# Altium integrated library ec200u new design.IntLib: 58 symbols
Pins are listed as number, name and electrical type; pins without a type are passive.

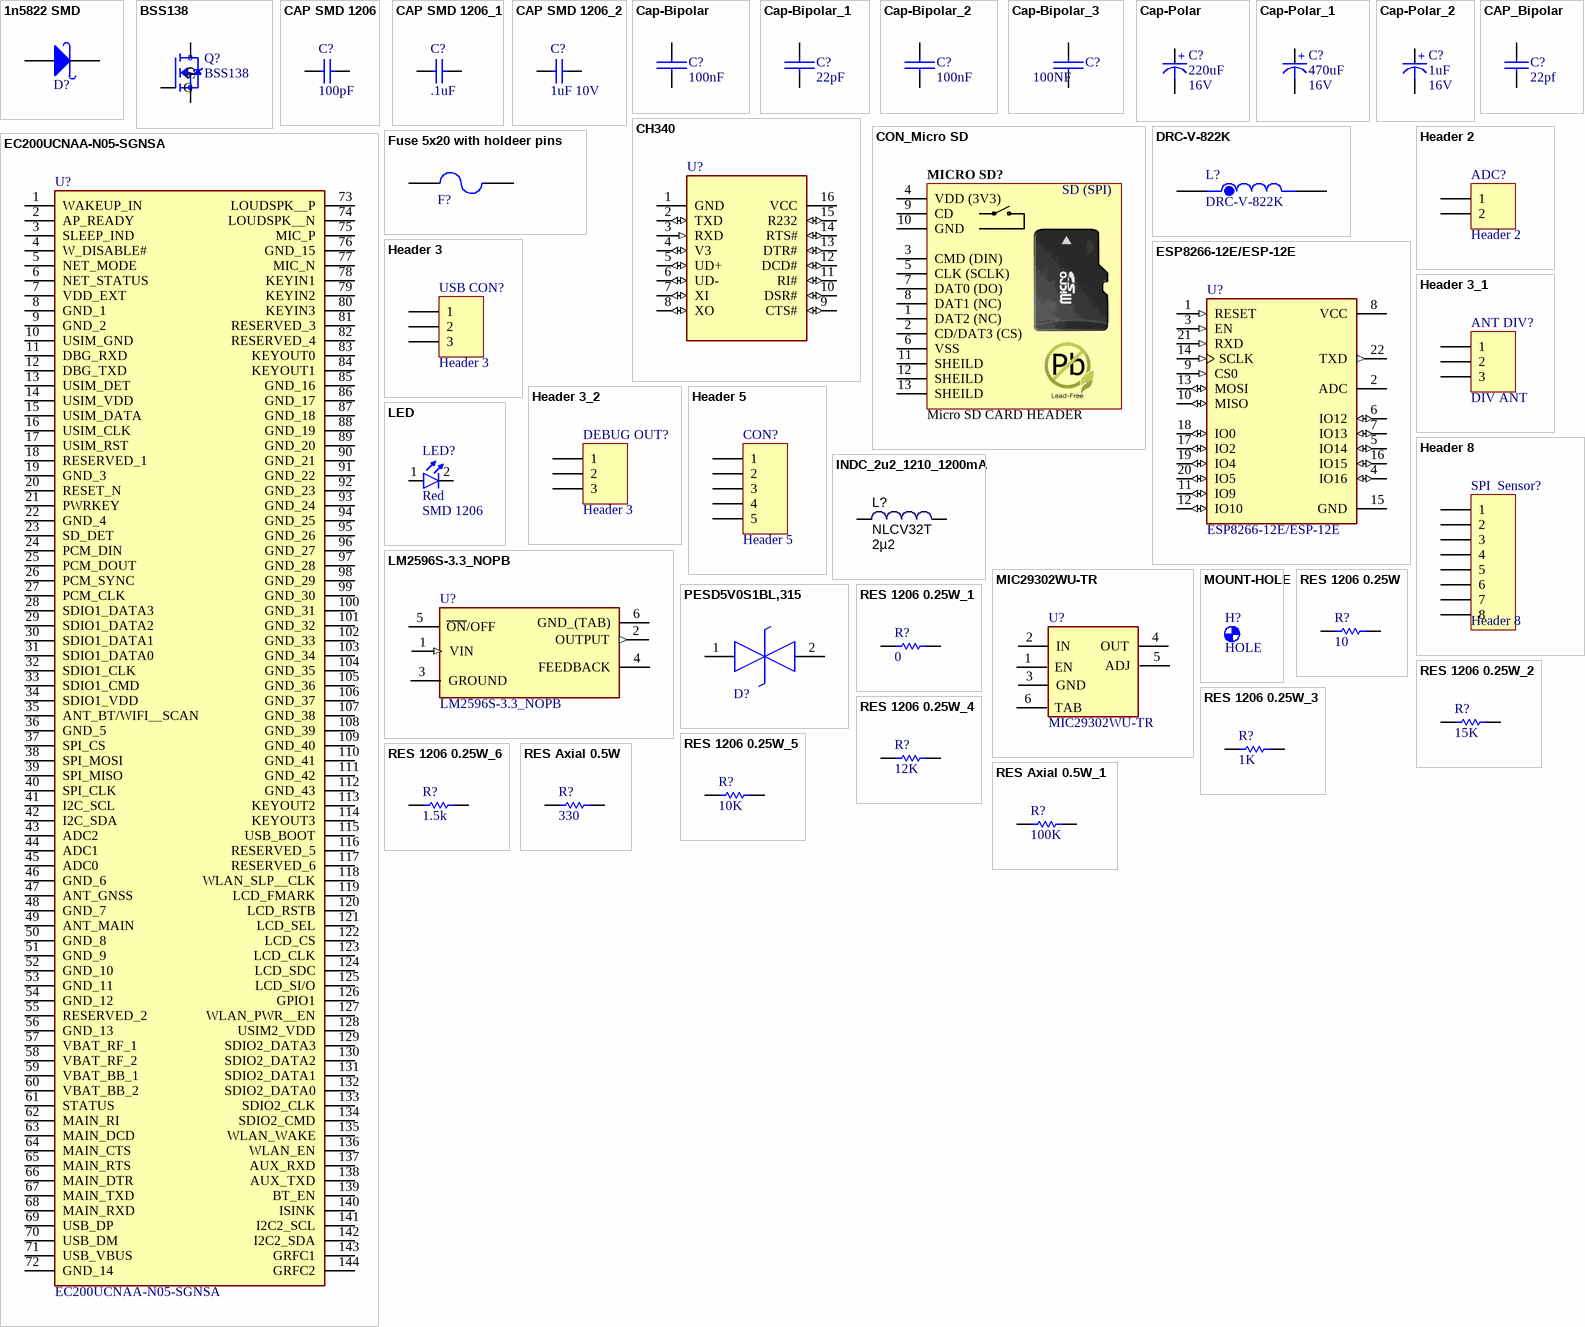
[diagram p0: symbols 1n5822 SMD to RES Axial 0.5W_1]

## 1n5822 SMD
designator D?, comment 1n5822  (value not drawn)
Schottky Rectifiers; Part. No: SS34; Manufacturer: ON Semiconductor/Fairchild; Designer: Abbas Basereh; Link: https://www.aliexpress.com/item/Free-shipping-100pcs-1n5822-sma-smd-do-214ac-Schottky-diode-ss34/32337482329.html?spm=2114.01010208.3.1.zLZDsP&ws_ab_test=searchweb0_0,searchweb201602_4_10065_10068_10084_10083_10080_10082_10081_10060_10061_10062_10056_10055_10054_10059_10099_10078_10079_427_10073_10103_10102_10096_10052_10050_10051,searchweb201603_4&btsid=6e50dc92-ac69-45bc-a19e-209af19ce602; Link: http://www.tme.eu/en/details/ss34/smd-schottky-diodes/vishay/ss34-e357t/; Link: http://www.digikey.com/product-detail/en/on-semiconductor-fairchild/SS34/SS34FSCT-ND/2094459; Data: 16-12-2016
footprint DIOM7568X24N (Molded Diode, 2-Leads, Body 7/50x6/80mm, IPC Medium Density)
footprint DO-214AB(SMC) (Molded Diode, 2-Leads, Body 6/85x5/90mm, IPC Medium Density DESIGNER ABBAS BASEREH)
footprint PCBComponent_1
pins: 1 A, 2 K

## BSS138
designator Q?
N-Channel 50V 220mA (Ta) 360mW (Ta) Surface Mount SOT-23-3; Price: None; MP: BSS138; Value: *; Availability: Unavailable; Package: None
footprint SOT95P240X111-3N
footprint SOT100P230X110-3N
footprint SOT95P240X111-3N
footprint SOT-23-3_L2.9-W1.3-P1.90-LS2.4-BR
pins: 1 G, 2 S, 3 D

## CAP SMD 1206
designator C?, comment 100pF
CAP 1206; Designer: Abbas Basereh; Desc.: CAP SMD 1206; Data: 16-12-2016
footprint CAPC4817X12N (Chip Capacitor, 2-Leads, Body 4/80x1/70mm, IPC Medium Density)
footprint CAPC2012X140N
pins: 1, 2

## CAP SMD 1206_1
designator C?, comment .1uF
CAP 1206; Designer: Abbas Basereh; Desc.: CAP SMD 1206; Data: 16-12-2016
footprint CAPC4817X12N (Chip Capacitor, 2-Leads, Body 4/80x1/70mm, IPC Medium Density)
footprint CAPC2012X140N
pins: 1, 2

## CAP SMD 1206_2
designator C?, comment 1uF 10V
10 V; Designer: Abbas Basereh; Desc.: CAP SMD 1206; Data: 16-12-2016
footprint CAPC4817X12N (Chip Capacitor, 2-Leads, Body 4/80x1/70mm, IPC Medium Density)
pins: 1, 2

## Cap-Bipolar
designator C?, comment 100nF
Bipolar Capacitor; Voltage: 100V; Designer: Saeid Jorablo; Organazation: ControTec; Value: 100nF; Adding Date: 1387/12/20
footprint Cap 1uF-400v-Right
footprint Cap 1uF-400V-Stand
footprint Cap 10nF
footprint Cap - 100nF
footprint Cap - 100nF - 2
footprint Cap_680nF
footprint CAP 1206 (3216X15L) (Chip Capacitor, 2-Leads, Body 3.2x1.6mm, IPC High Density)
footprint CAPP 1206 (3216X18L) Size A (Chip Capacitor, 2-Leads, Body 3.2x1.6mm, IPC High Density, chip Tantalum)
footprint Cap - 10nF - 630V
footprint Cap - 100nF - 400V
footprint Cap - 220n - 400V - Poly
footprint Cap - 330nF - 400V
footprint SMD_CAP_0603
footprint SMD_CAP_0805
footprint SMD_CAP_1206
footprint CAPNTO3.18-4.83x2.67 (Capacitor, Radial, Tantalum, Non-Polarised; Body 4.83 x 2.67 x 5.97 mm (WxTxH max); Pin Spacing 3.18 mm (typ))
footprint SMD_CAP_1206
footprint CAPC2012X140N
pins: 1 +, 2 -

## Cap-Bipolar_1
designator C?, comment 22pF
Bipolar Capacitor; Voltage: 100V; Designer: Saeid Jorablo; Organazation: ControTec; Value: 22pF; Adding Date: 1387/12/20
footprint Cap 1uF-400v-Right
footprint Cap 1uF-400V-Stand
footprint Cap 10nF
footprint Cap - 100nF
footprint Cap - 100nF - 2
footprint Cap_680nF
footprint CAP 1206 (3216X15L) (Chip Capacitor, 2-Leads, Body 3.2x1.6mm, IPC High Density)
footprint CAPP 1206 (3216X18L) Size A (Chip Capacitor, 2-Leads, Body 3.2x1.6mm, IPC High Density, chip Tantalum)
footprint Cap - 10nF - 630V
footprint Cap - 100nF - 400V
footprint Cap - 220n - 400V - Poly
footprint Cap - 330nF - 400V
footprint SMD_CAP_0603
footprint SMD_CAP_0805
footprint SMD_CAP_1206
footprint CAPNTO2.54-3.56x2.03 (Capacitor, Radial, Tantalum, Non-Polarised; Body 3.56 x 2.03 x 5.08 mm (WxTxH max); Pin Spacing 2.54 mm (typ))
footprint SMD_CAP_1206
footprint CAPC2012X140N
pins: 1 +, 2 -

## Cap-Bipolar_2
designator C?, comment 100nF
Bipolar Capacitor; Voltage: 100V; Designer: Saeid Jorablo; Organazation: ControTec; Adding Date: 1387/12/20; Value: 100nF
footprint Cap 1uF-400v-Right
footprint Cap 1uF-400V-Stand
footprint Cap 10nF
footprint Cap - 100nF
footprint Cap - 100nF - 2
footprint Cap_680nF
footprint CAP 1206 (3216X15L) (Chip Capacitor, 2-Leads, Body 3.2x1.6mm, IPC High Density)
footprint CAPP 1206 (3216X18L) Size A (Chip Capacitor, 2-Leads, Body 3.2x1.6mm, IPC High Density, chip Tantalum)
footprint Cap - 10nF - 630V
footprint Cap - 100nF - 400V
footprint Cap - 220n - 400V - Poly
footprint Cap - 330nF - 400V
footprint SMD_CAP_0603
footprint SMD_CAP_0805
footprint SMD_CAP_1206
footprint 0603C
footprint 0805C
footprint CAPC2012X140N
pins: 1 +, 2 -

## Cap-Bipolar_3
designator C?, comment 100NF
Bipolar Capacitor; Voltage: 100V; Designer: Saeid Jorablo; Organazation: ControTec; Adding Date: 1387/12/20
footprint Cap 1uF-400v-Right
footprint Cap 1uF-400V-Stand
footprint Cap 10nF
footprint Cap - 100nF
footprint Cap - 100nF - 2
footprint Cap_680nF
footprint CAP 1206 (3216X15L) (Chip Capacitor, 2-Leads, Body 3.2x1.6mm, IPC High Density)
footprint CAPP 1206 (3216X18L) Size A (Chip Capacitor, 2-Leads, Body 3.2x1.6mm, IPC High Density, chip Tantalum)
footprint Cap - 10nF - 630V
footprint Cap - 100nF - 400V
footprint Cap - 220n - 400V - Poly
footprint Cap - 330nF - 400V
footprint SMD_CAP_0603
footprint SMD_CAP_0805
footprint SMD_CAP_1206
footprint 0603C
footprint 0805C
footprint CAPC2012X140N
pins: 1 +, 2 -

## Cap-Polar
designator C?, comment Voltage: 16V  (hidden comment: 220uF)
Polar Capacitor; Designer: Saeid Jorablo; Organazation: ControTec; Adding Date: 1387/12/20; Value: 220uF
footprint cap 00
footprint cap 01
footprint cap 02
footprint cap 03
footprint cap 04
footprint CAP 05
footprint CAPP 1206 (3216X18L) Size A (Chip Capacitor, 2-Leads, Body 3.2x1.6mm, IPC High Density, chip Tantalum)
footprint CAP_EEEFN1H101L
footprint CAP_EEEFT1C221AL
pins: 1 +, 2 -

## Cap-Polar_1
designator C?, comment Voltage: 16V  (hidden comment: 470uF)
Polar Capacitor; Designer: Saeid Jorablo; Organazation: ControTec; Adding Date: 1387/12/20; Value: 470uF
footprint cap 00
footprint cap 01
footprint cap 02
footprint cap 03
footprint cap 04
footprint CAP 05
footprint CAPP 1206 (3216X18L) Size A (Chip Capacitor, 2-Leads, Body 3.2x1.6mm, IPC High Density, chip Tantalum)
footprint CAP_EEEFN1H101L
footprint CAP_EEEFN1C471P
pins: 1 +, 2 -

## Cap-Polar_2
designator C?, comment Voltage: 16V  (hidden comment: 1uF)
Polar Capacitor; Designer: Saeid Jorablo; Organazation: ControTec; Adding Date: 1387/12/20; Value: 1uF
footprint cap 00
footprint TANTAL B
footprint cap 02
footprint cap 03
footprint cap 04
footprint CAP 05
footprint CAPP 1206 (3216X18L) Size A (Chip Capacitor, 2-Leads, Body 3.2x1.6mm, IPC High Density, chip Tantalum)
footprint CAP_EEEFN1H101L
footprint CAP_EEEFN1H100UR
pins: 1 +, 2 -

## CAP_Bipolar
designator C?, comment 22pf
Bipolar Capacitor; Voltage: 100V; Designer: Eng. Saeid Jorablo; Company: SJ Libraries; ComponentLink1Description: Datasheet; ComponentLink2Description: Reference; Publisher: SJ Unlimited; Mounting Technology: *; Mounting Technology: Surface Mount\Through-Hole; HelpURL: http://s3.picofile.com/file/7443264187/Coming_Soon_logo.gif; Status: Unreleased; Value: 22pf
footprint Cap - 100nF
signal-integrity model Cap (Bipolar Cap)
footprint Cap - 100nF - 2
footprint CAPC1005L (0402) (Chip Capacitor, Body 1.0x0.5mm, IPC High Density)
footprint CAPC1005M (0402) (Chip Capacitor, Body 1.0x0.5mm, IPC Low Density)
footprint CAPC1005N (0402) (Chip Capacitor, Body 1.0x0.5mm, IPC Medium Density)
footprint CAPC1608L (0603) (Chip Capacitor, Body 1.6x0.8mm, IPC High Density)
footprint CAPC1608M (0603) (Chip Capacitor, Body 1.6x0.8mm, IPC Low Density)
footprint CAPC1608N (0603) (Chip Capacitor, Body 1.6x0.8mm, IPC Medium Density)
footprint CAPC2012L (0805) (Chip Capacitor, Body 2.0x1.3mm, IPC High Density)
footprint CAPC2012M (0805) (Chip Capacitor, Body 2.0x1.3mm, IPC Low Density)
footprint CAPC2012N (0805) (Chip Capacitor, Body 2.0x1.3mm, IPC Medium Density)
footprint CAPC3216L (1206) (Chip Capacitor, Body 3.2x1.6mm, IPC High Density)
footprint CAPC3216M (1206) (Chip Capacitor, Body 3.2x1.6mm, IPC Low Density)
footprint CAPC3216N (1206) (Chip Capacitor, Body 3.2x1.6mm, IPC Medium Density)
footprint CAPC3225L (1210) (Chip Capacitor, Body 3.2x2.5mm, IPC High Density)
footprint CAPC3225M (1210) (Chip Capacitor, Body 3.2x2.5mm, IPC Low Density)
footprint CAPC3225N (1210) (Chip Capacitor, Body 3.2x2.5mm, IPC Medium Density)
footprint CAPNTO2.54-3.56x2.03 (Capacitor, Radial, Tantalum, Non-Polarised; Body 3.56 x 2.03 x 5.08 mm (WxTxH max); Pin Spacing 2.54 mm (typ))
footprint SMD_CAP_1206
footprint CAPC2012X140N
pins: 1 +, 2 -

## CH340
designator U?
CH340 USB 2.0 to UART Interface Evaluation Board; MF: DFRobot; Value: *; Price: None; Package: None; SnapEDA_Link: https://www.snapeda.com/parts/CH340/DFRobot/view-part/53354/?ref=snap; Availability: Unavailable; MP: CH340
footprint SO16
footprint MSOP10-NOPAD
footprint SO16_M (16-Pin Small Outline Integrated Circuit 1.27 mm Pitch, IPC Low Density - DESIGNER ABBAS BASEREH)
pins: 1 GND (power), 2 TXD (io), 3 RXD (in), 4 V3 (io), 5 UD+ (io), 6 UD- (io), 7 XI (io), 8 XO (io), 9 CTS# (io), 10 DSR# (io), 11 RI# (io), 12 DCD# (io), 13 DTR# (io), 14 RTS# (io), 15 R232 (io), 16 VCC (power)

## CON_Micro SD
designator MICRO SD?, comment Micro SD CARD HEADER
Secure Digital Card Socket; Max Current: mA; designer: Eng. Saeid Jorablo; Company: SJ Libraries; Connector type: Header; Mounting Technology: Surface Mount; Status: Unreleased; Category: Connector; Pin Count: 13; Publisher: SJ UnLimited; ComponentLink1Description: Datasheet; ComponentLink2Description: Reference; Update: 7/8/2012; HelpURL: http://s3.picofile.com/file/7443264187/Coming_Soon_logo.gif
signal-integrity model Connector (SD Card Connector)
footprint AMPHENOL_GTFP08131Y2HR
footprint AMPHENOL_GTFP08131Y2HR
pins: 1 DAT2 (NC), 2 CD/DAT3 (CS), 3 CMD (DIN), 4 VDD (3V3) (power), 5 CLK (SCLK), 6 VSS (power), 7 DAT0 (DO), 8 DAT1 (NC), 9 CD, 10 GND (power), 11 SHEILD (power), 12 SHEILD (power), 13 SHEILD (power)
text: SD (SPI)

## DRC-V-822K
designator L?
Radial Inductor with Leads,8200ÂµH, 0.13A,Q>20; MF: Bel Fuse; MP: DRC-V-822K; Purchase-URL: https://pricing.snapeda.com/search/part/DRC-V-822K/?ref=eda; SnapEDA_Link: https://www.snapeda.com/parts/DRC-V-822K/Bel+Fuse/view-part/?ref=snap; Value: *; Package: None; Price: None; Availability: In Stock; Check_prices: https://www.snapeda.com/parts/DRC-V-822K/Bel+Fuse/view-part/?ref=eda
footprint IND_DRC-V-822K
footprint IND_DRC-V-821K
pins: 1, 2

## EC200UCNAA-N05-SGNSA
designator U?
Integrated Circuit; Manufacturer_Name: Quectel; Datasheet Link: https://www.evelta.com/content/datasheets/027-EC200UCNAA.pdf; Height: 2.6mm; Manufacturer_Part_Number: EC200UCNAA-N05-SGNSA; Mouser Part Number: 277-EC2UCNAAN05SGNSA; Mouser Price/Stock: https://www.mouser.co.uk/ProductDetail/Quectel/EC200UCNAA-N05-SGNSA?qs=vvQtp7zwQdNfIz65%252BTj4jQ%3D%3D
footprint EC200UCNAAN05SGNSA
pins: 1 WAKEUP_IN, 2 AP_READY, 3 SLEEP_IND, 4 W_DISABLE#, 5 NET_MODE, 6 NET_STATUS, 7 VDD_EXT, 8 GND_1, 9 GND_2, 10 USIM_GND, 11 DBG_RXD, 12 DBG_TXD, 13 USIM_DET, 14 USIM_VDD, 15 USIM_DATA, 16 USIM_CLK, 17 USIM_RST, 18 RESERVED_1, 19 GND_3, 20 RESET_N, 21 PWRKEY, 22 GND_4, 23 SD_DET, 24 PCM_DIN, 25 PCM_DOUT, 26 PCM_SYNC, 27 PCM_CLK, 28 SDIO1_DATA3, 29 SDIO1_DATA2, 30 SDIO1_DATA1, 31 SDIO1_DATA0, 32 SDIO1_CLK, 33 SDIO1_CMD, 34 SDIO1_VDD, 35 ANT_BT/WIFI__SCAN, 36 GND_5, 37 SPI_CS, 38 SPI_MOSI, 39 SPI_MISO, 40 SPI_CLK, 41 I2C_SCL, 42 I2C_SDA, 43 ADC2, 44 ADC1, 45 ADC0, 46 GND_6, 47 ANT_GNSS, 48 GND_7, 49 ANT_MAIN, 50 GND_8, 51 GND_9, 52 GND_10, 53 GND_11, 54 GND_12, 55 RESERVED_2, 56 GND_13, 57 VBAT_RF_1, 58 VBAT_RF_2, 59 VBAT_BB_1, 60 VBAT_BB_2, 61 STATUS, 62 MAIN_RI, 63 MAIN_DCD, 64 MAIN_CTS, 65 MAIN_RTS, 66 MAIN_DTR, 67 MAIN_TXD, 68 MAIN_RXD, 69 USB_DP, 70 USB_DM, 71 USB_VBUS, 72 GND_14, 73 LOUDSPK__P, 74 LOUDSPK__N, 75 MIC_P, 76 GND_15, 77 MIC_N, 78 KEYIN1, 79 KEYIN2, 80 KEYIN3, 81 RESERVED_3, 82 RESERVED_4, 83 KEYOUT0, 84 KEYOUT1, 85 GND_16, 86 GND_17, 87 GND_18, 88 GND_19, 89 GND_20, 90 GND_21, 91 GND_22, 92 GND_23, 93 GND_24, 94 GND_25, 95 GND_26, 96 GND_27, 97 GND_28, 98 GND_29, 99 GND_30, 100 GND_31, 101 GND_32, 102 GND_33, 103 GND_34, 104 GND_35, 105 GND_36, 106 GND_37, 107 GND_38, 108 GND_39, 109 GND_40, 110 GND_41, 111 GND_42, 112 GND_43, 113 KEYOUT2, 114 KEYOUT3, 115 USB_BOOT, 116 RESERVED_5, 117 RESERVED_6, 118 WLAN_SLP__CLK, 119 LCD_FMARK, 120 LCD_RSTB, 121 LCD_SEL, 122 LCD_CS, 123 LCD_CLK, 124 LCD_SDC, 125 LCD_SI/O, 126 GPIO1, 127 WLAN_PWR__EN, 128 USIM2_VDD, 129 SDIO2_DATA3, 130 SDIO2_DATA2, 131 SDIO2_DATA1, 132 SDIO2_DATA0, 133 SDIO2_CLK, 134 SDIO2_CMD, 135 WLAN_WAKE, 136 WLAN_EN, 137 AUX_RXD, 138 AUX_TXD, 139 BT_EN, 140 ISINK, 141 I2C2_SCL, 142 I2C2_SDA, 143 GRFC1, 144 GRFC2

## ESP8266-12E/ESP-12E
designator U?
ESP-12E WiFi Module; Value: *; MP: ESP8266-12E/ESP-12E; Availability: Unavailable; Package: None; Price: None
footprint XCVR_ESP8266-12E/ESP-12E
pins: 1 RESET (in), 2 ADC, 3 EN (in), 4 IO16 (io), 5 IO14 (io), 6 IO12 (io), 7 IO13 (io), 8 VCC (power), 9 CS0 (in), 10 MISO (io), 11 IO9 (io), 12 IO10 (io), 13 MOSI (io), 14 SCLK (in), 15 GND (power), 16 IO15 (io), 17 IO2 (io), 18 IO0 (io), 19 IO4 (io), 20 IO5 (io), 21 RXD (in), 22 TXD (out)

## Fuse 5x20 with holdeer pins
designator F?, comment F=1.0 A  (value not drawn)
Fuses 5x20; Designer: Abbas Basereh; Desc.: fuse with holder pins 5x20; Data: 28-12-2016
footprint Fuse 5x20 With holder pin (Dsigner : Abbas Basereh)
footprint RESC3216X125N
pins: 1, 2

## Header 2
designator ADC?
Header, 2-Pin; LatestRevisionDate: 17-Jul-2002; LatestRevisionNote: Re-released for DXP Platform.; Publisher: Altium Limited
signal-integrity model Connector
footprint PCBComponent_1
pins: 1, 2

## Header 3
designator USB CON?
Header, 3-Pin; LatestRevisionDate: 17-Jul-2002; LatestRevisionNote: Re-released for DXP Platform.; Publisher: Altium Limited
footprint HDR1X3 (Connector; Header; 3 Position)
signal-integrity model Connector
pins: 1, 2, 3

## Header 3_1
designator ANT DIV?, comment DIV ANT
Header, 3-Pin; LatestRevisionDate: 17-Jul-2002; LatestRevisionNote: Re-released for DXP Platform.; Publisher: Altium Limited
footprint HDR1X3 (Connector; Header; 3 Position)
signal-integrity model Connector
pins: 1, 2, 3

## Header 3_2
designator DEBUG OUT?, comment Header 3
Header, 3-Pin; LatestRevisionDate: 17-Jul-2002; LatestRevisionNote: Re-released for DXP Platform.; Publisher: Altium Limited
signal-integrity model Connector
footprint HDR1X3-1 (Header /Jumper box-Designer Abbas Basereh)
footprint TE_826926-3
pins: 1, 2, 3

## Header 5
designator CON?
Header, 5-Pin; LatestRevisionDate: 17-Jul-2002; LatestRevisionNote: Re-released for DXP Platform.; Publisher: Altium Limited
footprint HDR1X5 (Connector; Header; 5 Position)
signal-integrity model Connector
pins: 1, 2, 3, 4, 5

## Header 8
designator SPI  Sensor?
Header, 8-Pin; LatestRevisionDate: 17-Jul-2002; LatestRevisionNote: Re-released for DXP Platform.; Publisher: Altium Limited
signal-integrity model Connector
footprint PCBComponent_1
pins: 1, 2, 3, 4, 5, 6, 7, 8

## INDC_2u2_1210_1200mA
designator L?, comment NLCV32T  value 2µ2
Inductor 2.2uH 1.2A 1210 SMD chip; Manufacturer 1: TDK Corporation; Manufacturer Part Number 1: NLCV32T-2R2M-PFR; Ratings: 1.2 Adc; Tolerance: ±20%; Type: Ferrite Core; DC Resistance (DCR): 115 mOhm; Q @ Freq: 15 @ 7.96MHz; Frequency - Self Resonant: 68MHz; Frequency - Test: 7.96MHz; SCDType: source; Package / Case: 1210 (3225 Metric); Supplier 1: Digi-Key; Supplier Part Number 1: 445-3650-1-ND; ComponentLink1URL: http://www.tdk.co.jp/tefe02/e511_nlcv_nlc.pdf; ComponentLink1Description: http://www.tdk.co.jp/tefe02/e511_nlcv_nlc.pdf; Operating Temperature: -40°C ~ 125°C
footprint INDM3225X240N (Molded Inductor, 2-Leads, Body 3.2x2.5mm, IPC Medium Density)
pins: 1, 2

## LED
designator LED?, comment Size: SMD 1206  (hidden comment: Red)
5V OK; Designer: Saeid Jorablo; Organazation: ControTec; Adding Date: 1387/12/22; Color: Red
footprint PCBComponent_1
pins: 1 A, 2 K

## LM2596S-3.3_NOPB
designator U?
Integrated Circuit; Manufacturer_Name: Texas Instruments; Manufacturer_Part_Number: LM2596S-3.3/NOPB; Datasheet Link: http://www.ti.com/lit/ds/symlink/lm2596.pdf; Height: 4.65mm; Mouser Part Number: 926-LM2596S-3.3/NOPB; Mouser Price/Stock: https://www.mouser.co.uk/ProductDetail/Texas-Instruments/LM2596S-3.3-NOPB?qs=X1J7HmVL2ZHsEwG9Q6doow%3D%3D; Arrow Part Number: LM2596S-3.3/NOPB; Arrow Price/Stock: https://www.arrow.com/en/products/lm2596s-3.3nopb/texas-instruments?region=nac
footprint TO170P1435X465-6N
pins: 1 VIN (in), 2 OUTPUT (out), 3 GROUND, 4 FEEDBACK, 5 ~{ON}/OFF, 6 GND_(TAB) (power)

## MIC29302WU-TR
designator U?
Integrated Circuit; Manufacturer_Name: Microchip; Datasheet Link: http://ww1.microchip.com/downloads/en/DeviceDoc/20005685A.pdf; Height: 4.597mm; Manufacturer_Part_Number: MIC29302WU-TR; Mouser Part Number: 998-MIC29302WUTR; Mouser Price/Stock: https://www.mouser.co.uk/ProductDetail/Microchip-Technology/MIC29302WU-TR?qs=U6T8BxXiZAWR9%2FgJIuiMuA%3D%3D; Arrow Part Number: MIC29302WU-TR; Arrow Price/Stock: https://www.arrow.com/en/products/mic29302wu-tr/microchip-technology?region=nac
footprint MIC29302WUTR
pins: 1 EN, 2 IN, 3 GND, 4 OUT, 5 ADJ, 6 TAB

## MOUNT-HOLE
designator H?, comment HOLE  (no BOM)
MOUNTING HOLE with drill center marker
footprint P2.8 (MOUNTING HOLE 2.8 mm with drill center)
footprint P3.0 (MOUNTING HOLE 3.0 mm with drill center)
footprint P3.2 (MOUNTING HOLE 3.2 mm with drill center)
footprint P3.3 (MOUNTING HOLE 3.3 mm with drill center)
footprint P3.6 (MOUNTING HOLE 3.6 mm with drill center)
footprint P4.1 (MOUNTING HOLE 4.1 mm with drill center)
footprint P4.5 (MOUNTING HOLE 4.5 mm with drill center)
footprint P5.0 (MOUNTING HOLE 5.0 mm with drill center)
footprint P5.5 (MOUNTING HOLE 5.5 mm with drill center)
footprint P4.3 (MOUNTING HOLE 4.3 mm with drill center)

## PESD5V0S1BL,315
designator D?  (value not drawn)
Diode ESD (Bi-directional); Manufacturer_Name: Nexperia; Datasheet Link: https://assets.nexperia.com/documents/data-sheet/PESD5V0S1BL.pdf; Height: 0mm; Manufacturer_Part_Number: PESD5V0S1BL,315; Mouser Part Number: 771-PESD5V0S1BL315; Mouser Price/Stock: https://www.mouser.co.uk/ProductDetail/Nexperia/PESD5V0S1BL315?qs=LOCUfHb8d9vNKhGKXkjrvQ%3D%3D; Arrow Part Number: PESD5V0S1BL,315; Arrow Price/Stock: https://www.arrow.com/en/products/pesd5v0s1bl315/nexperia
footprint PESD5V0S1BL315
footprint DIO_PESD5V0S1UL,315
pins: 1 K1, 2 K2

## RES 1206 0.25W
designator R?, comment 10
RES 1206; Designer: Abbas Basereh; Desc.: RES SMD 1206; Data: 16-12-2016
footprint RESC4817X04N (Chip Resistor, 2-Leads, Body 4/80x1/70mm, IPC Medium Density)
footprint RESC2012X65N
pins: 1, 2

## RES 1206 0.25W_1
designator R?, comment 0
RES 1206; Designer: Abbas Basereh; Desc.: RES SMD 1206; Data: 16-12-2016
footprint RESC4817X04N (Chip Resistor, 2-Leads, Body 4/80x1/70mm, IPC Medium Density)
footprint RESC2012X65N
pins: 1, 2

## RES 1206 0.25W_2
designator R?, comment 15K
RES 1206; Designer: Abbas Basereh; Desc.: RES SMD 1206; Data: 16-12-2016
footprint RESC4817X04N (Chip Resistor, 2-Leads, Body 4/80x1/70mm, IPC Medium Density)
footprint 0603
footprint 0805
footprint RESC2012X65N
pins: 1, 2

## RES 1206 0.25W_3
designator R?, comment 1K
RES 1206; Designer: Abbas Basereh; Desc.: RES SMD 1206; Data: 16-12-2016
footprint RESC4817X04N (Chip Resistor, 2-Leads, Body 4/80x1/70mm, IPC Medium Density)
footprint 0603
footprint 0805
footprint RESC2012X65N
pins: 1, 2

## RES 1206 0.25W_4
designator R?, comment 12K
RES 1206; Designer: Abbas Basereh; Desc.: RES SMD 1206; Data: 16-12-2016
footprint RESC4817X04N (Chip Resistor, 2-Leads, Body 4/80x1/70mm, IPC Medium Density)
footprint 0603
footprint 0805
footprint RESC2012X65N
pins: 1, 2

## RES 1206 0.25W_5
designator R?, comment 10K
RES 1206; Designer: Abbas Basereh; Desc.: RES SMD 1206; Data: 16-12-2016
footprint RESC4817X04N (Chip Resistor, 2-Leads, Body 4/80x1/70mm, IPC Medium Density)
footprint 0603
footprint 0805
footprint RESC2012X65N
pins: 1, 2

## RES 1206 0.25W_6
designator R?, comment 1.5k
RES 1206; Designer: Abbas Basereh; Desc.: RES SMD 1206; Data: 16-12-2016
footprint RESC4817X04N (Chip Resistor, 2-Leads, Body 4/80x1/70mm, IPC Medium Density)
footprint 0603
footprint 0805
footprint RESC2012X65N
pins: 1, 2

## RES Axial 0.5W
designator R?, comment 330
RES Axial 0.5W; Designer: Abbas Basereh; Desc.: RES Axial 0.5W; Data: 4-1-2017
footprint Axial 0_5W 5_0mm (Designer Abbas Basereh)
footprint RESC4817X04N (Chip Resistor, 2-Leads, Body 4/80x1/70mm, IPC Medium Density-Design:Abbas Basereh)
footprint RESC2012X65N
pins: 1, 2

## RES Axial 0.5W_1
designator R?, comment 100K
RES Axial 0.5W; Designer: Abbas Basereh; Desc.: RES Axial 0.5W; Data: 4-1-2017
footprint Axial 0_5W 5_0mm (Designer Abbas Basereh)
footprint RESC4817X04N (Chip Resistor, 2-Leads, Body 4/80x1/70mm, IPC Medium Density-Design:Abbas Basereh)
footprint RESC2012X65N
footprint RESC2012X65N
pins: 1, 2

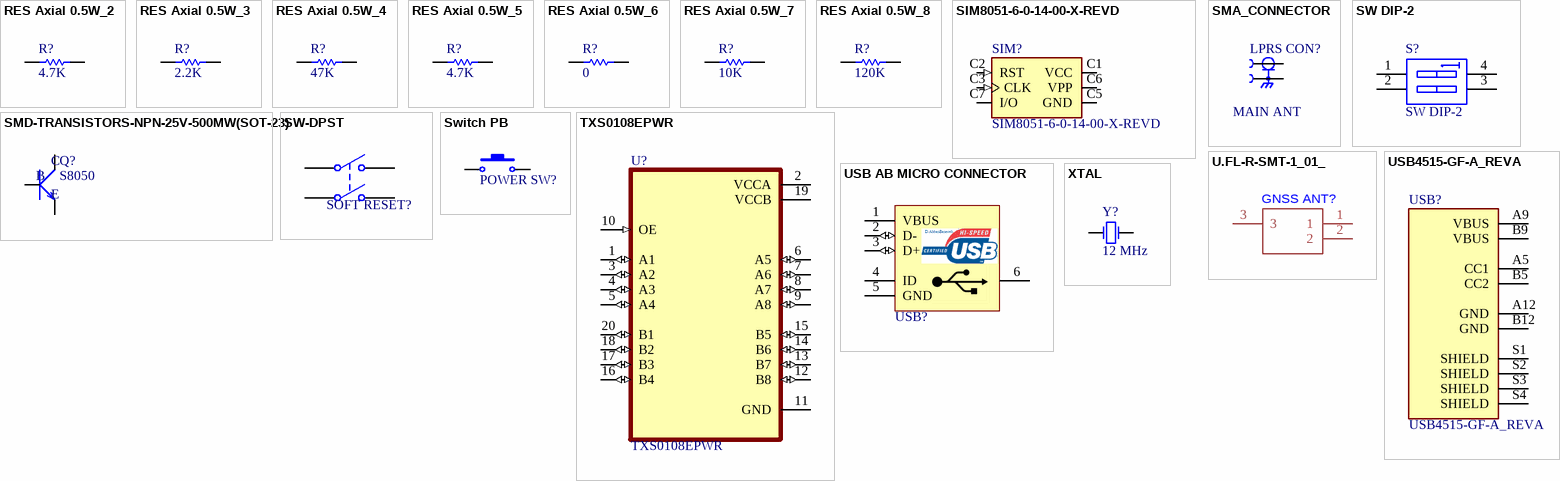
[diagram p1: symbols RES Axial 0.5W_2 to XTAL]

## RES Axial 0.5W_2
designator R?, comment 4.7K
RES Axial 0.5W; Designer: Abbas Basereh; Desc.: RES Axial 0.5W; Data: 4-1-2017
footprint Axial 0_5W 5_0mm (Designer Abbas Basereh)
footprint 1206
footprint 1206
footprint RESC4817X04N (Chip Resistor, 2-Leads, Body 4/80x1/70mm, IPC Medium Density-Design:Abbas Basereh)
footprint RESC2012X65N
pins: 1, 2

## RES Axial 0.5W_3
designator R?, comment 2.2K
RES Axial 0.5W; Designer: Abbas Basereh; Desc.: RES Axial 0.5W; Data: 4-1-2017
footprint Axial 0_5W 5_0mm (Designer Abbas Basereh)
footprint RESC4817X04N (Chip Resistor, 2-Leads, Body 4/80x1/70mm, IPC Medium Density-Design:Abbas Basereh)
footprint RESC2012X65N
pins: 1, 2

## RES Axial 0.5W_4
designator R?, comment 47K
RES Axial 0.5W; Designer: Abbas Basereh; Desc.: RES Axial 0.5W; Data: 4-1-2017
footprint Axial 0_5W 5_0mm (Designer Abbas Basereh)
footprint RESC4817X04N (Chip Resistor, 2-Leads, Body 4/80x1/70mm, IPC Medium Density-Design:Abbas Basereh)
footprint RESC2012X65N
pins: 1, 2

## RES Axial 0.5W_5
designator R?, comment 4.7K
RES Axial 0.5W; Designer: Abbas Basereh; Desc.: RES Axial 0.5W; Data: 4-1-2017
footprint Axial 0_5W 5_0mm (Designer Abbas Basereh)
footprint RESC4817X04N (Chip Resistor, 2-Leads, Body 4/80x1/70mm, IPC Medium Density-Design:Abbas Basereh)
footprint RESC2012X65N
pins: 1, 2

## RES Axial 0.5W_6
designator R?, comment 0
RES Axial 0.5W; Designer: Abbas Basereh; Desc.: RES Axial 0.5W; Data: 4-1-2017
footprint Axial 0_5W 5_0mm (Designer Abbas Basereh)
footprint 1206
footprint 1206
footprint RESC4817X04N (Chip Resistor, 2-Leads, Body 4/80x1/70mm, IPC Medium Density-Design:Abbas Basereh)
footprint RESC2012X65N
pins: 1, 2

## RES Axial 0.5W_7
designator R?, comment 10K
RES Axial 0.5W; Designer: Abbas Basereh; Desc.: RES Axial 0.5W; Data: 4-1-2017
footprint Axial 0_5W 5_0mm (Designer Abbas Basereh)
footprint 1206
footprint 1206
footprint RESC4817X04N (Chip Resistor, 2-Leads, Body 4/80x1/70mm, IPC Medium Density-Design:Abbas Basereh)
footprint RESC2012X65N
pins: 1, 2

## RES Axial 0.5W_8
designator R?, comment 120K
RES Axial 0.5W; Designer: Abbas Basereh; Desc.: RES Axial 0.5W; Data: 4-1-2017
footprint Axial 0_5W 5_0mm (Designer Abbas Basereh)
footprint 1206
footprint 1206
footprint RESC4817X04N (Chip Resistor, 2-Leads, Body 4/80x1/70mm, IPC Medium Density-Design:Abbas Basereh)
footprint RESC2012X65N
pins: 1, 2

## SIM8051-6-0-14-00-X-REVD
designator SIM?
Nano SIM Card Connector, Push-Pull Type, 6 Pin, SMT, Profile 1.35mm; Price: None; Value: *; MP: SIM8051-6-0-14-00-X-REVD; Package: None; Availability: Unavailable
footprint PCBComponent_1
pins: C1 VCC (power), C2 RST (in), C3 CLK (in), C5 GND (power), C6 VPP (power), C7 I/O (io)

## SMA_CONNECTOR
designator LPRS CON?, comment MAIN ANT
RF Connectors / Coaxial Connectors SMA Coaxial Right angled; MP: SMA CONNECTOR; MF: LPRS; Value: *; SnapEDA_Link: https://www.snapeda.com/parts/SMA%20CONNECTOR/LPRS/view-part/?ref=snap; Check_prices: https://www.snapeda.com/parts/SMA%20CONNECTOR/LPRS/view-part/?ref=eda; Availability: In Stock; Price: None; Purchase-URL: https://pricing.snapeda.com/search/part/SMA CONNECTOR/?ref=eda; Package: None
footprint LPRS_SMA_CONNECTOR
footprint LPRS_SMA_CONNECTOR
footprint LPRS_SMA_CONNECTOR
pins: 1, G1 2, G2 2, G3 2, G4 2

## SMD-TRANSISTORS-NPN-25V-500MW(SOT-23)
designator Q?, comment S8050
305010017; Price: None; MP: S8050; Availability: Unavailable; Value: *; Package: None
footprint SOT-23
footprint TRANS_SS8050-G
pins: 1 B, 2 E, 3 C

## SW DIP-2
designator S?
DIP Switch, 2 Position, SPST; Published: 24-Mar-1999; LatestRevisionDate: 17-Jul-2002; LatestRevisionNote: Re-released for DXP Platform.; PackageReference: DIP-4; Publisher: Altium Limited
footprint DIP-4 (DIP; 4 Leads; Row Spacing 7.62 mm; Pitch 2.54 mm)
simulation model dpsw2 (Spice Subcircuit)
pins: 1 A1, 2 A2, 3 B2, 4 B1

## SW-DPST
designator SOFT RESET?  (value not drawn)
Double-Pole, Single-Throw Switch; Published: 24-Mar-1999; LatestRevisionDate: 17-Jul-2002; LatestRevisionNote: Re-released for DXP Platform.; PackageReference: DPST-4; Publisher: Altium Limited; PackageDescription: Switch; 4 Leads
footprint DPST-4 (Switch; 4 Leads)
pins: 1 COMMON1, 2 NO1, 3 COMMON2, 4 NO2

## Switch PB
designator POWER SW?  (value not drawn)
Push Button Switch
footprint Switch - Push to On
footprint SW-PB
footprint SW_147873-2
footprint PCBComponent_1
pins: 1, 2

## TXS0108EPWR
designator U?
8-bit bidirectional voltage-level shifter for open-drain and push-pull application; MF: Texas Instruments; Value: *; SnapEDA_Link: https://www.snapeda.com/parts/TXS0108EPWR/Texas+Instruments/view-part/?ref=snap; Purchase-URL: https://pricing.snapeda.com/search/part/TXS0108EPWR/?ref=eda; Availability: In Stock; Price: None; Package: TSSOP-20 Texas Instruments; Check_prices: https://www.snapeda.com/parts/TXS0108EPWR/Texas+Instruments/view-part/?ref=eda; MP: TXS0108EPWR
footprint SOP65P640X120-20N
pins: 1 A1 (io), 2 VCCA (power), 3 A2 (io), 4 A3 (io), 5 A4 (io), 6 A5 (io), 7 A6 (io), 8 A7 (io), 9 A8 (io), 10 OE (in), 11 GND (power), 12 B8 (io), 13 B7 (io), 14 B6 (io), 15 B5 (io), 16 B4 (io), 17 B3 (io), 18 B2 (io), 19 VCCB (power), 20 B1 (io)

## U.FL-R-SMT-1_01_
designator GNSS ANT?  (value not drawn)
footprint U.FL-R-SMT(01)
footprint PCBComponent_1
pins: 1, 2, 3

## USB4515-GF-A_REVA
designator USB?
Type C USB Charging Connector; MF: Global Connector Technology; SnapEDA_Link: https://www.snapeda.com/parts/USB4515-GF-A/Global+Connector+Technology/view-part/?ref=snap; Package: None; Check_prices: https://www.snapeda.com/parts/USB4515-GF-A/Global+Connector+Technology/view-part/?ref=eda; Value: *; Digi-Key_Part_Number: 2073-USB4515-GF-ATR-ND; MP: USB4515-GF-A
footprint GCT_USB4515-GF-A_REVA
pins: A5 CC1, A9 VBUS (power), A12 GND (power), B5 CC2, B9 VBUS (power), B12 GND (power), S1 SHIELD (power), S2 SHIELD (power), S3 SHIELD (power), S4 SHIELD (power)

## USB AB MICRO CONNECTOR
designator USB?, comment USB Connector  (value not drawn)
USB MICRO-B Type Connector; Designer: ABBAS BASEREH; Max Current: 1600mA; Mounting Technology: Surface Mount\Through-Hole; Category: Connector; Pin Count: 5-7; Publisher: ABBAS BASEREH; Status: Unreleased; ComponentLink1Description: Datasheet; ComponentLink2Description: Reference; Update: 1395-11-17
footprint USB_AB_BM_SHS (USB Micro AB - Standard (Bottom mount), Shell SMT DESIGNER ABBAS BASEREH)
footprint USB_AB_receptacle (USB Micro AB - receptacle  DESIGNER ABBAS BASEREH)
pins: 1 VBUS (power), 2 D- (io), 3 D+ (io), 4 ID (power), 5 GND (power), 6 MH (power)
3 alternate drawings of the same symbol
text: D:AbbasBasereh

## XTAL
designator Y?, comment 12 MHz
XTAL Crystal; Designer: ABBAS BASEREH; Design Date: 2017-1-3; ComponentLink1Description: Datasheet; ComponentLink2Description: Reference; Mounting Technology: Surface Mount\Through-Hole; Value: 12 MHz; Status: Unreleased
footprint XTAL 16MHZ (Crystal Oscillator)
footprint XTAL L (Crystal Oscillator)
footprint XTAL M (Crystal Oscillator)
footprint XTAL RTC (Crystal Oscillator)
footprint XTAL_ABLS7M2-25.000MHZ-D2Y-T
footprint XTAL_ABLS7M-16.000MHZ-B-2-T
footprint XTAL_ECS-120-S-4
footprint XTAL_ABLS7M-16.000MHZ-B-2-T
pins: 1 OSC1, 2 OSC2